# EAGLE library part W25Q128JV (library MF_IC_Digital)
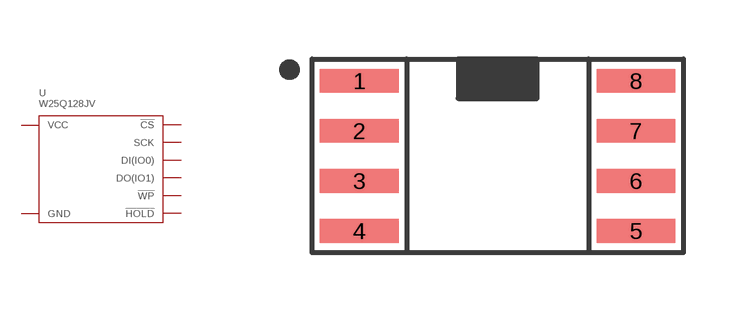
[diagram p18: symbol with the pads of W25Q128JV_SOIC-8; footprint W25Q128JV_SOIC-8]

Designator prefix U

## W25Q128JV  [W25Q128JV_SOIC-8]
1  !CS
2  DO(IO1)
3  !WP
4  GND
5  DI(IO0)
6  SCK
7  !HOLD
8  VCC

## Footprint W25Q128JV_SOIC-8 (pad centres in mm)
smd 2 x 0.6: 1 -3.508,1.905; 2 -3.508,0.635; 3 -3.508,-0.635; 4 -3.508,-1.905; 5 3.508,-1.905; 6 3.508,-0.635; 7 3.508,0.635; 8 3.508,1.905